# Altium footprint library Synthiam-new.PcbLib: 262 footprints (part 14 of 17)
Each footprint in its own frame and in the unit in brackets; x right, y up, seen from the top. Pads: shape width x height; smd on the part's side, far side on the other; paste and mask are expansions set on the pad; w line width, h text height; cw(c..) or ccw(c..) is an arc to the next point about the centre after c.
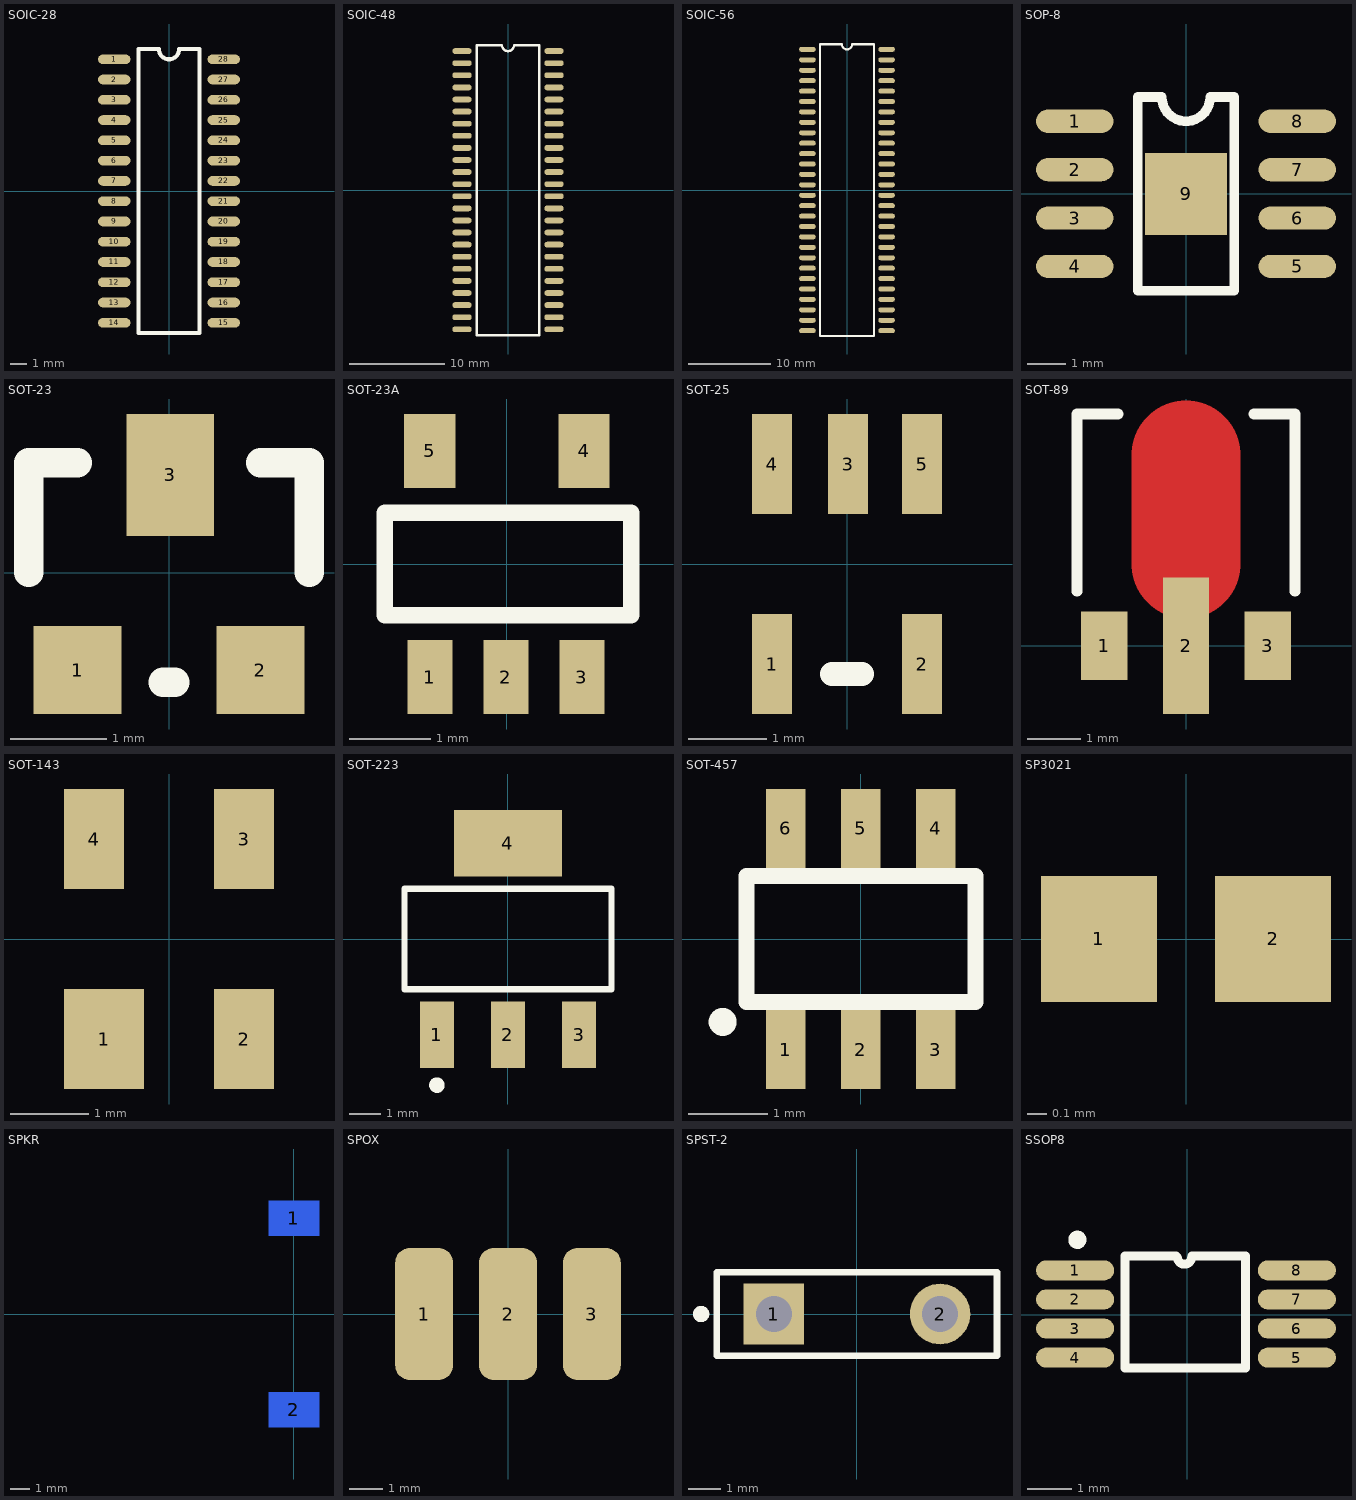
[diagram p13: the footprints below, top view; thin cyan lines are the x and y axes]

## SOIC-28 [mil]
pads (28):
  oval 80x24 smd: 1(-135,325) 2(-135,275) 3(-135,225) 4(-135,175) 5(-135,125) 6(-135,75) 7(-135,25) 8(-135,-25) 9(-135,-75) 10(-135,-125) 11(-135,-175) 12(-135,-225) 13(-135,-275) 14(-135,-325) 15(135,-325) 16(135,-275) 17(135,-225) 18(135,-175) 19(135,-125) 20(135,-75) 21(135,-25) 22(135,25) 23(135,75) 24(135,125) 25(135,175) 26(135,225) 27(135,275) 28(135,325)
Top Overlay:
  lines w10: -75,-350 75,-350 75,350 25,350 cw(c0,350) -25,350 -75,350 -75,-350

## SOIC-48 [mil]
pads (48):
  oval 80x24 smd: 1(-190,575) 2(-190,525) 3(-190,475) 4(-190,425) 5(-190,375) 6(-190,325) 7(-190,275) 8(-190,225) 9(-190,175) 10(-190,125) 11(-190,75) 12(-190,25) 13(-190,-25) 14(-190,-75) 15(-190,-125) 16(-190,-175) 17(-190,-225) 18(-190,-275) 19(-190,-325) 20(-190,-375) 21(-190,-425) 22(-190,-475) 23(-190,-525) 24(-190,-575) 25(190,-575) 26(190,-525) 27(190,-475) 28(190,-425) 29(190,-375) 30(190,-325) 31(190,-275) 32(190,-225) 33(190,-175) 34(190,-125) 35(190,-75) 36(190,-25) 37(190,25) 38(190,75) 39(190,125) 40(190,175) 41(190,225) 42(190,275) 43(190,325) 44(190,375) 45(190,425) 46(190,475) 47(190,525) 48(190,575)
Top Overlay:
  lines w10: -130,-600 130,-600 130,600 25,600 cw(c0,600) -25,600 -130,600 -130,-600

## SOIC-56 [mil]
pads (56):
  oval 80x24 smd: 1(-190,675) 2(-190,625) 3(-190,575) 4(-190,525) 5(-190,475) 6(-190,425) 7(-190,375) 8(-190,325) 9(-190,275) 10(-190,225) 11(-190,175) 12(-190,125) 13(-190,75) 14(-190,25) 15(-190,-25) 16(-190,-75) 17(-190,-125) 18(-190,-175) 19(-190,-225) 20(-190,-275) 21(-190,-325) 22(-190,-375) 23(-190,-425) 24(-190,-475) 25(-190,-525) 26(-190,-575) 27(-190,-625) 28(-190,-675) 29(190,-675) 30(190,-625) 31(190,-575) 32(190,-525) 33(190,-475) 34(190,-425) 35(190,-375) 36(190,-325) 37(190,-275) 38(190,-225) 39(190,-175) 40(190,-125) 41(190,-75) 42(190,-25) 43(190,25) 44(190,75) 45(190,125) 46(190,175) 47(190,225) 48(190,275) 49(190,325) 50(190,375) 51(190,425) 52(190,475) 53(190,525) 54(190,575) 55(190,625) 56(190,675)
Top Overlay:
  lines w10: -130,-700 -130,700 -25,700 ccw(c0,700) 25,700 130,700 130,-700 -130,-700

## SOP-8 [mil]
pads (9):
  oval 80x24 smd: 1(-115,75) 2(-115,25) 3(-115,-25) 4(-115,-75) 5(115,-75) 6(115,-25) 7(115,25) 8(115,75)
  rect 84.65x84.65 smd: 9(0,0)
Top Overlay:
  lines w10: -50,-100 50,-100 50,100 25,100 cw(c0,100) -25,100 -50,100 -50,-100

## SOT-23 [mil]
pads (3):
  rect 36x36 smd: 1(-37.5,-40) 2(37.5,-40)
  rect 36x50 smd: 3(0.5,40)
Top Overlay:
  lines w12: -57.5,0 -57.5,45 -37.5,45 ; -2.5,-45 2.5,-45 ; 37.5,45 57.5,45 57.5,0

## SOT-23A [mil]
pads (5):
  rect 22x36 smd: 1(-37.5,-55) 2(-0.5,-55) 3(36.5,-55)
  rect 25x36 smd: 4(37.5,55) 5(-37.5,55)
Top Overlay:
  lines w8: -59.5,-25 -59.5,25 60.5,25 60.5,-25 -59.5,-25

## SOT-25 [mil]
pads (5):
  rect 20x50 smd: 1(-37.5,-50) 2(37.5,-50) 3(0.5,50) 4(-37.5,50) 5(37.5,50)
Top Overlay:
  lines w12: -7.5,-55 7.5,-55

## SOT-89 [mil]
pads (3):
  rect 34x50 smd: 1(-60,0) 3(60,0)
  rect 34x100 smd: 2(0,0)
Top Layer:
  lines w80: 0,60 0,140
Top Overlay:
  lines w8: -80,40 -80,170 -50,170 ; 50,170 80,170 80,40

## SOT-143 [mil]
pads (4):
  rect 40x50 smd: 1(-32.5,-50)
  rect 30x50 smd: 2(37.5,-50) 3(37.5,50) 4(-37.5,50)

## SOT-223 [mm]
pads (4):
  rect 1.1x2.15 smd: 1(-2.3,-3.1) 2(0,-3.1) 3(2.3,-3.1)
  rect 3.5x2.15 smd: 4(0,3.1)
Top Overlay:
  circle w0.25: c-2.3,-4.725 r0.125
  lines w0.2: -3.35,-1.625 -3.35,1.625 3.35,1.625 3.35,-1.625 -3.35,-1.625

## SOT-457 [mm]
pads (6):
  rect 0.5x1 smd: 1(-0.95,-1.4) 2(0,-1.4) 3(0.95,-1.4) 4(0.95,1.4) 5(0,1.4) 6(-0.95,1.4)
Top Overlay:
  circle w0.254: c-1.75,-1.05 r0.05
  lines w0.203: -1.45,-0.8 -1.45,0.8 1.45,0.8 1.45,-0.8 -1.45,-0.8

## SP3021 [mm]
pads (2):
  rect 0.6x0.65 smd: 1(-0.45,0) 2(0.45,0)

## SPKR [mm]
pads (2):
  rect 2.6x1.8 smd far side: 1(0,4.953) 2(0,-4.953)
Bottom Overlay:
  lines w0.254: -1.524,-5.334 -14.224,-5.334 -14.224,5.461 -1.524,5.461 ; 0.762,-3.81 0.762,3.835

## SPOX [mm]
pads (3):
  rrect50% 1.75x4 smd: 1(-2.54,0) 2(0,0) 3(2.54,0)

## SPST-2 [mm]
pads (2):
  rect 1.85x1.85 hole 1.1: 1(-2.54,0)
  round 1.85 hole 1.1: 2(2.54,0)
Top Overlay:
  circle w0.25: c-4.761,-0.001 r0.125
  lines w0.2: -4.28,-1.27 4.28,-1.27 4.28,1.27 -4.28,1.27 -4.28,-1.27

## SSOP8 [mm]
pads (8):
  oval 1.75x0.45 smd: 1(-2.515,0.991) 2(-2.515,0.341) 3(-2.515,-0.309) 4(-2.515,-0.959) 5(2.45,-0.959) 6(2.45,-0.309) 7(2.45,0.341) 8(2.45,0.991)
Top Overlay:
  circle w0.254: c-2.464,1.676 r0.076
  lines w0.2: -0.254,1.316 -1.397,1.316 -1.397,-1.194 1.295,-1.194 1.295,1.316 0.102,1.316 ; -0.229,1.295 ccw(c-0.066,1.295) 0.096,1.295